# Altium footprint library Rangefinder.PcbLib: 27 footprints (part 1 of 2)
Each footprint in its own frame and in the unit in brackets; x right, y up, seen from the top. Pads: shape width x height; smd on the part's side, far side on the other; paste and mask are expansions set on the pad; w line width, h text height; cw(c..) or ccw(c..) is an arc to the next point about the centre after c.
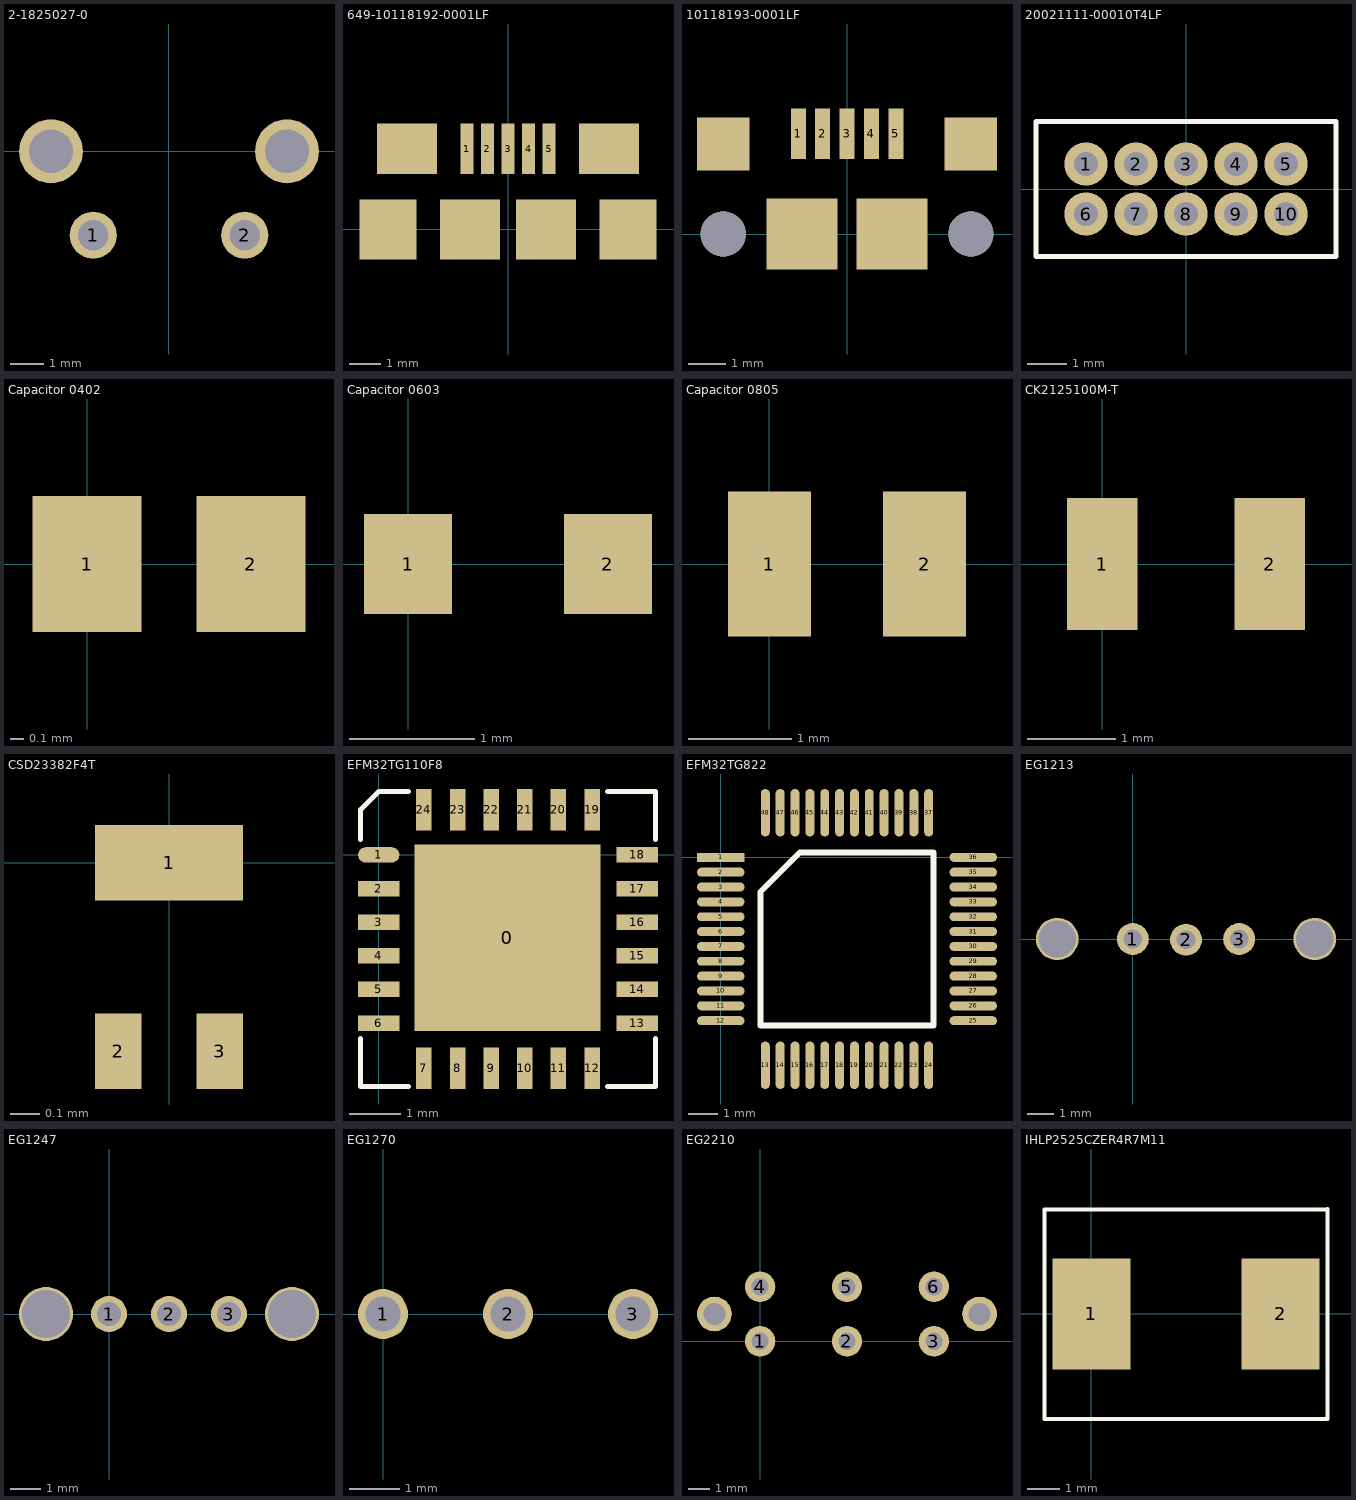
[diagram p0: the footprints below, top view; thin cyan lines are the x and y axes]

## 2-1825027-0 [mm]
pads (4):
  round 1.4 hole 0.9: 1(-2.25,-2.49) 2(2.25,-2.49)
  round 1.9 hole 1.3: ""(-3.505,0) ""(3.505,0)

## 649-10118192-0001LF [mm]
pads (11):
  rect 0.4x1.6 smd: 1(-1.3,2.55) 2(-0.65,2.55) 3(0,2.55) 4(0.65,2.55) 5(1.3,2.55)
  rect 1.8x1.9 smd: ""(-3.8,0) ""(3.8,0)
  rect 1.9x1.6 smd: ""(-3.2,2.55) ""(3.2,2.55)
  rect 1.9x1.9 smd: ""(-1.2,0) ""(1.2,0)

## 10118193-0001LF [mm]
pads (11):
  rect 0.4x1.35 smd: 1(-1.3,2.675) 2(-0.65,2.675) 3(0,2.675) 4(0.65,2.675) 5(1.3,2.675)
  round 1.2 hole 1.2: ""(-3.3,0) ""(3.3,0)
  rect 1.4x1.4 smd: ""(-3.3,2.4) ""(3.3,2.4)
  rect 1.9x1.9 smd: ""(-1.2,0) ""(1.2,0)

## 20021111-00010T4LF [mm]
pads (10):
  round 1.1 hole 0.6: 1(-2.54,0.635) 2(-1.27,0.635) 3(0,0.635) 4(1.27,0.635) 5(2.54,0.635) 6(-2.54,-0.635) 7(-1.27,-0.635) 8(0,-0.635) 9(1.27,-0.635) 10(2.54,-0.635)
Top Overlay:
  lines w0.127: -3.81,-1.715 -3.81,1.715 3.81,1.715 3.81,-1.715 -3.81,-1.715

## Capacitor 0402 [mm]
pads (2):
  rect 0.8x1 smd: 1(0,0) 2(1.2,0)

## Capacitor 0603 [mm]
pads (2):
  rect 0.7x0.8 smd: 1(0,0) 2(1.6,0)

## Capacitor 0805 [mm]
pads (2):
  rect 0.8x1.4 smd: 1(0,0) 2(1.5,0)

## CK2125100M-T [mm]
pads (2):
  rect 0.8x1.5 smd: 1(0,0) 2(1.9,0)

## CSD23382F4T [mm]
pads (3):
  rect 0.51x0.26 smd: 1(0,0)
  rect 0.16x0.26 smd: 2(-0.175,-0.65) 3(0.175,-0.65)

## EFM32TG110F8 [mm]
pads (25):
  rect 3.6x3.6 smd: 0(2.489,-1.6)
  oval 0.8x0.3 smd: 1(0,0)
  rect 0.8x0.3 smd: 2(0,-0.65) 3(0,-1.3) 4(0,-1.95) 5(0,-2.6) 6(0,-3.25) 13(5,-3.25) 14(5,-2.6) 15(5,-1.95) 16(5,-1.3) 17(5,-0.65) 18(5,0)
  rect 0.3x0.8 smd: 7(0.875,-4.125) 8(1.525,-4.125) 9(2.175,-4.125) 10(2.825,-4.125) 11(3.475,-4.125) 12(4.125,-4.125) 19(4.125,0.875) 20(3.475,0.875) 21(2.825,0.875) 22(2.175,0.875) 23(1.525,0.875) 24(0.875,0.875)
Top Overlay:
  lines w0.1: -0.35,-3.55 -0.35,-4.475 0.575,-4.475 ; -0.35,0.3 -0.35,0.875 0,1.225 0.575,1.225 ; 4.425,-4.475 5.35,-4.475 5.35,-3.55 ; 4.425,1.225 5.35,1.225 5.35,0.3

## EFM32TG822 [mm]
pads (48):
  rect 1.6x0.3 smd: 1(0,0)
  oval 1.6x0.3 smd: 2(0,-0.5) 3(0,-1) 4(0,-1.5) 5(0,-2) 6(0,-2.5) 7(0,-3) 8(0,-3.5) 9(0,-4) 10(0,-4.5) 11(0,-5) 12(0,-5.5) 25(8.5,-5.5) 26(8.5,-5) 27(8.5,-4.5) 28(8.5,-4) 29(8.5,-3.5) 30(8.5,-3) 31(8.5,-2.5) 32(8.5,-2) 33(8.5,-1.5) 34(8.5,-1) 35(8.5,-0.5) 36(8.5,0)
  oval 0.3x1.6 smd: 13(1.5,-7) 14(2,-7) 15(2.5,-7) 16(3,-7) 17(3.5,-7) 18(4,-7) 19(4.5,-7) 20(5,-7) 21(5.5,-7) 22(6,-7) 23(6.5,-7) 24(7,-7) 37(7,1.5) 38(6.5,1.5) 39(6,1.5) 40(5.5,1.5) 41(5,1.5) 42(4.5,1.5) 43(4,1.5) 44(3.5,1.5) 45(3,1.5) 46(2.5,1.5) 47(2,1.5) 48(1.5,1.5)
Top Overlay:
  lines w0.2: 1.335,-5.665 7.165,-5.665 7.165,0.165 2.67,0.165 1.335,-1.17 1.335,-5.665

## EG1213 [mm]
pads (5):
  round 1.2 hole 0.7: 1(0,0) 2(2,-0.025) 3(4,0)
  round 1.6 hole 1.4: ""(-2.85,0) ""(6.85,0)

## EG1247 [mm]
pads (5):
  round 1.2 hole 0.8: 1(0,0) 2(2,0) 3(4,0)
  round 1.8 hole 1.6: ""(-2.1,0) ""(6.1,0)

## EG1270 [mm]
pads (3):
  round 1 hole 0.7: 1(0,0) 2(2.5,0) 3(5,0)

## EG2210 [mm]
pads (8):
  round 1.4 hole 0.8: 1(0,0) 2(4,0) 3(8,0) 4(0,2.5) 5(4,2.5) 6(8,2.5)
  round 1.6 hole 1: ""(-2.1,1.25) ""(10.1,1.25)

## IHLP2525CZER4R7M11 [mil]
pads (2):
  rect 95x135 smd: 1(0,0) 2(230,0)
Top Overlay:
  lines w4.92: 287,127 -57,127 -57,-127.72 286.99,-127.72 287,127.72